# Altium schematic symbol library SCH - CONNECTORS - SAMTEC - SSQ-102-01-G-D.SCHLIB: 1 symbol
Pins are listed as number, name and electrical type; pins without a type are passive.

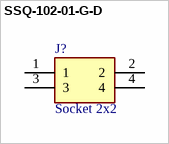
[diagram p0: symbol SSQ-102-01-G-D]

## SSQ-102-01-G-D
designator J?, comment Socket 2x2
Type:Socket / Pitch:2.54 mm / Number of Rows: 2 Row; / Positions 4; Manufacturer_Name: SAMTEC; Manufacturer_Part_Number: SSQ-102-01-G-D-LL; Datasheet Link: https://componentsearchengine.com/Datasheets/1/SSQ-102-01-G-D-LL.pdf; Height: 8.51mm; Mouser Part Number: 200-SSQ10201GDLL; Mouser Price/Stock: https://www.mouser.co.uk/ProductDetail/Samtec/SSQ-102-01-G-D-LL?qs=rU5fayqh%252BE0HpXLn%2FKcxLA%3D%3D
footprint RHDR4W64P254_2X2_559X495X851P
pins: 1, 2, 3, 4